# EAGLE library part 50246-024 (library con-aces-50246-series)
ACES CONNECTORS 50246 SERIES ACES Connecors 50246 <https://www.acesconn.com/tw/series/50246-xxxxx-xxx/1292>
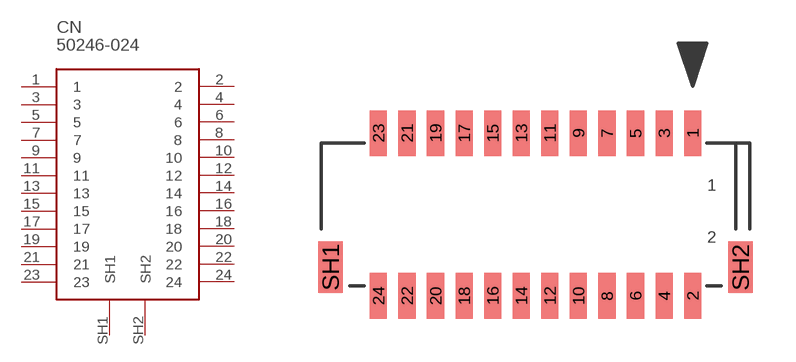
[diagram p6: symbol with the pads of 50246-024; footprint 50246-024]

Designator prefix CN

## 50246-024  [50246-024]
1  1
2  2
3  3
4  4
5  5
6  6
7  7
8  8
9  9
10  10
11  11
12  12
13  13
14  14
15  15
16  16
17  17
18  18
19  19
20  20
21  21
22  22
23  23
24  24
SH1  SH1
SH2  SH2

## Footprint 50246-024 (pad centres in mm)
smd 0.6 x 1.6: 1 5.5,2.85; 2 5.5,-2.85; 3 4.5,2.85; 4 4.5,-2.85; 5 3.5,2.85; 6 3.5,-2.85; 7 2.5,2.85; 8 2.5,-2.85; 9 1.5,2.85; 10 1.5,-2.85; 11 0.5,2.85; 12 0.5,-2.85; 13 -0.5,2.85; 14 -0.5,-2.85; 15 -1.5,2.85; 16 -1.5,-2.85; 17 -2.5,2.85; 18 -2.5,-2.85; 19 -3.5,2.85; 20 -3.5,-2.85; 21 -4.5,2.85; 22 -4.5,-2.85; 23 -5.5,2.85; 24 -5.5,-2.85
smd 0.85 x 1.8: SH1 -7.175,-1.85; SH2 7.175,-1.85